# Altium integrated library NSC LDO.IntLib: 1202 symbols (part 24 of 27)
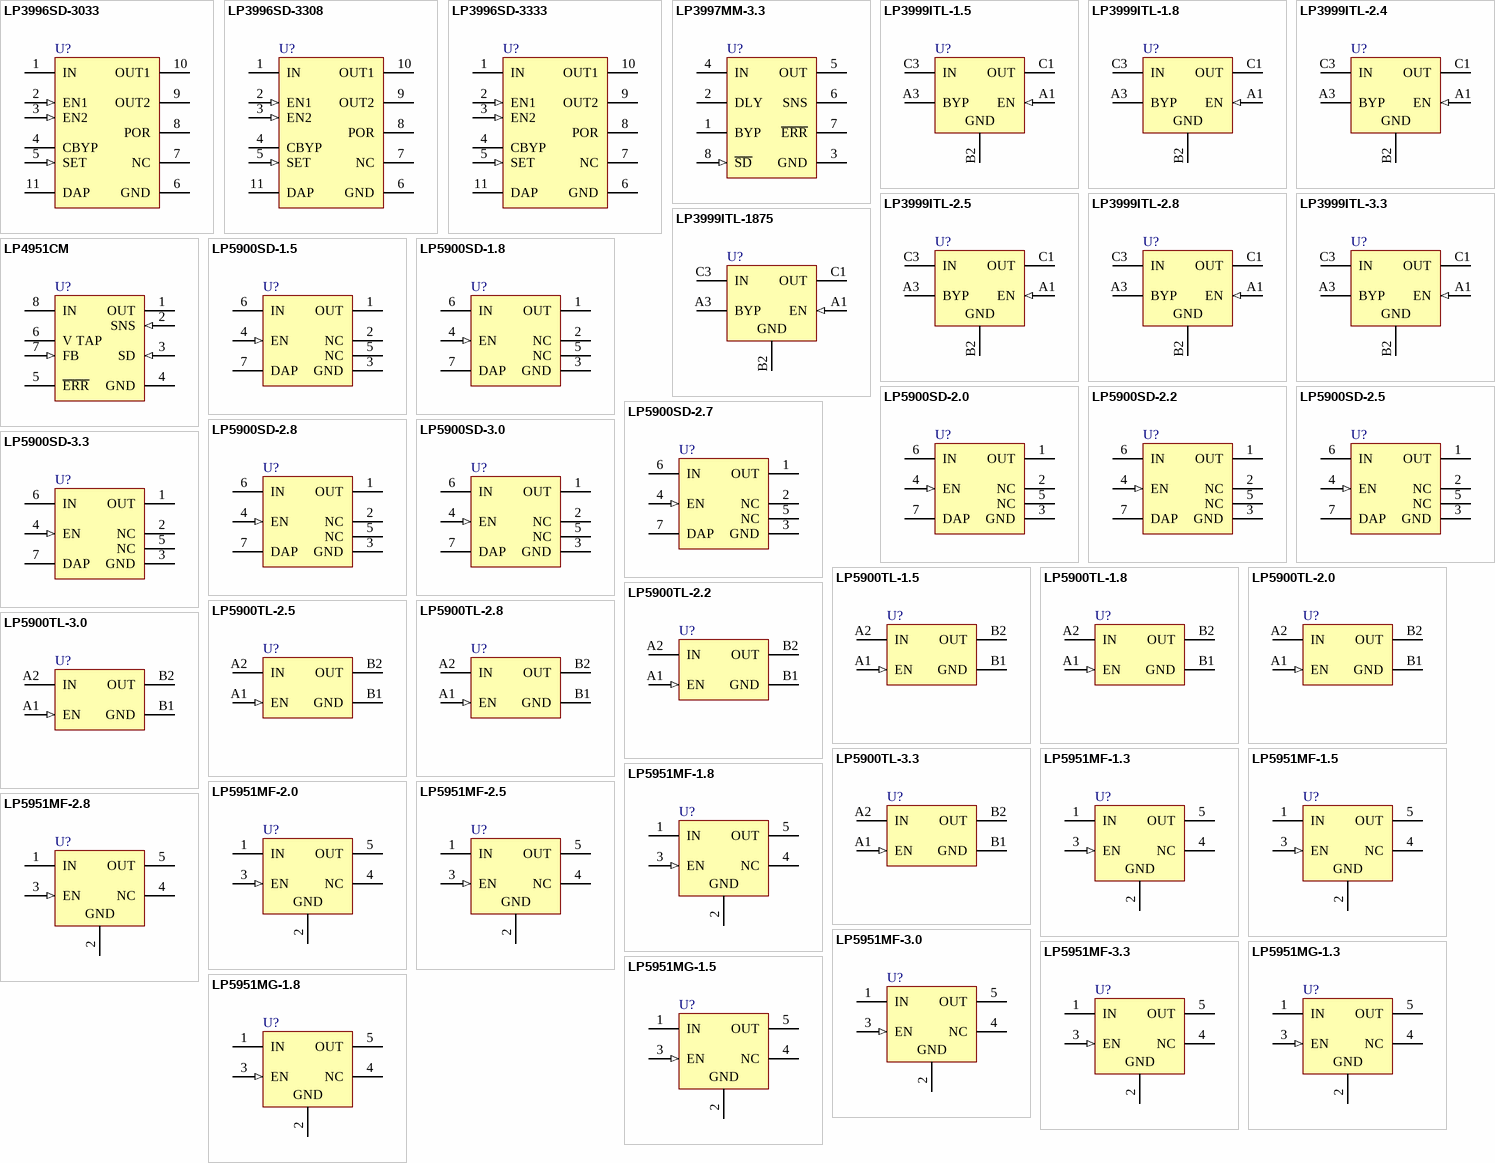
[diagram p53: symbols LP3996SD-3033 to LP5951MG-1.8]

## LP5951MG-1.5
designator U?
Micropower, 150mA Low-Dropout CMOS Voltage Regulator; PartNumber: LP5951MG-1.5; Manufacturer: National Semiconductor; CompType: LDO IC; PackageTopMarking: L2B*XTT; Published: 4-Dec-2008; DatasheetVersion: May-2007; PackageVersion: revD, Jun-2007; PackageReference: MAA05A; Publisher: Altium Limited; PackageDescription: Molded SC-70, 2 x 1.25 x .9mm, 5 Lead, 0.65mm Pitch; RoHS: Y; PinCount: 5; DigiKeyPartNumber: LP5951MG-1.5CT-ND; Code_JEITA: SC-88A; Code_JEDEC: MO-203-AA; Code_IPC: SOT353-5; ComponentLink1Description: LP5951 Datasheet; ComponentLink1URL: http://www.national.com/ds/LP/LP5951.pdf; ComponentLink2Description: LP5951 Web Page; ComponentLink2URL: http://www.national.com/pf/LP/LP5951.html; ComponentLink3Description: MAA05A Package Page; ComponentLink3URL: http://www.national.com/packaging/folders/maa05a.html
footprint MAA05A_N (SOT353, 5-Leads, Body 2x1.3mm, Pitch 0.65mm, Lead Span 2.1mm, IPC Medium Density)
footprint MAA05A_L (SOT353, 5-Leads, Body 2x1.3mm, Pitch 0.65mm, Lead Span 2.1mm, IPC High Density)
footprint MAA05A_M (SOT353, 5-Leads, Body 2x1.3mm, Pitch 0.65mm, Lead Span 2.1mm, IPC Low Density)
pins: 1 IN (power), 2 GND (power), 3 EN (in), 4 NC, 5 OUT (power)

## LP5951MG-1.8
designator U?
Micropower, 150mA Low-Dropout CMOS Voltage Regulator; PartNumber: LP5951MG-1.8; Manufacturer: National Semiconductor; CompType: LDO IC; PackageTopMarking: L3B*XTT; Published: 4-Dec-2008; DatasheetVersion: May-2007; PackageVersion: revD, Jun-2007; PackageReference: MAA05A; Publisher: Altium Limited; PackageDescription: Molded SC-70, 2 x 1.25 x .9mm, 5 Lead, 0.65mm Pitch; RoHS: O; PinCount: 5; DigiKeyPartNumber: LP5951MG-1.8CT-ND; Code_JEITA: SC-88A; Code_JEDEC: MO-203-AA; Code_IPC: SOT353-5; ComponentLink1Description: LP5951 Datasheet; ComponentLink1URL: http://www.national.com/ds/LP/LP5951.pdf; ComponentLink2Description: LP5951 Web Page; ComponentLink2URL: http://www.national.com/pf/LP/LP5951.html; ComponentLink3Description: MAA05A Package Page; ComponentLink3URL: http://www.national.com/packaging/folders/maa05a.html
footprint MAA05A_N (SOT353, 5-Leads, Body 2x1.3mm, Pitch 0.65mm, Lead Span 2.1mm, IPC Medium Density)
footprint MAA05A_L (SOT353, 5-Leads, Body 2x1.3mm, Pitch 0.65mm, Lead Span 2.1mm, IPC High Density)
footprint MAA05A_M (SOT353, 5-Leads, Body 2x1.3mm, Pitch 0.65mm, Lead Span 2.1mm, IPC Low Density)
pins: 1 IN (power), 2 GND (power), 3 EN (in), 4 NC, 5 OUT (power)

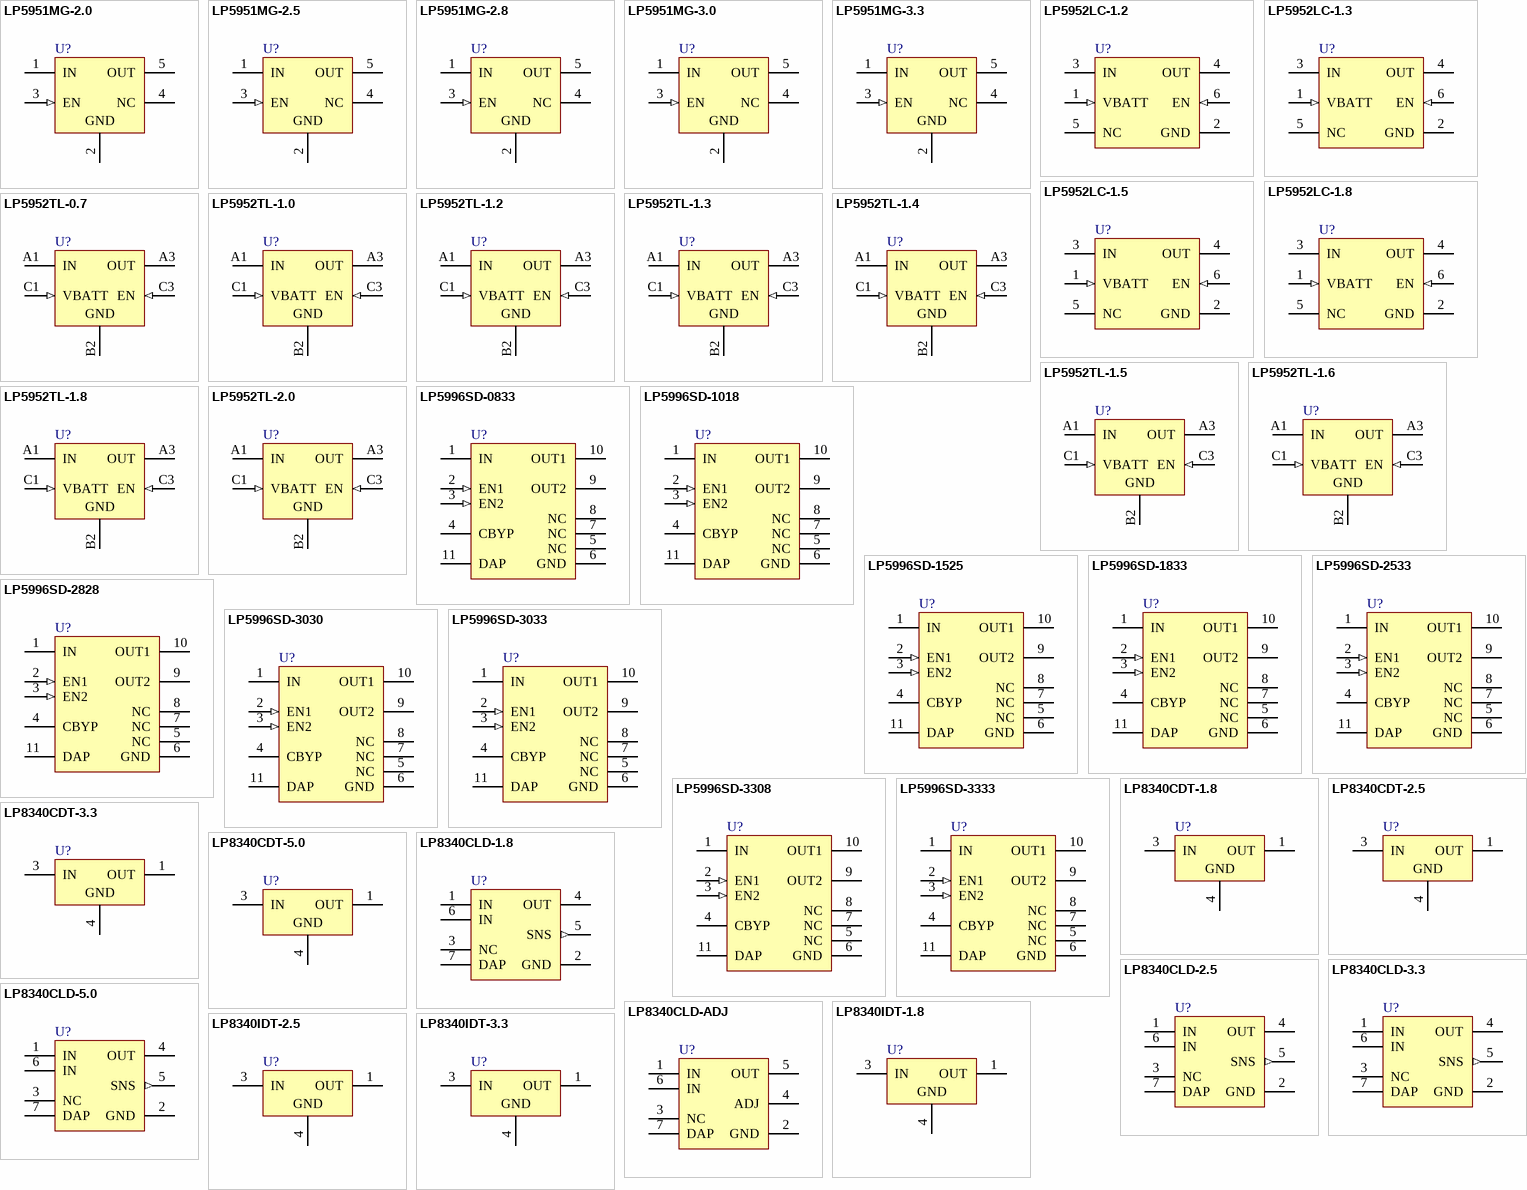
[diagram p26: symbols LP5951MG-2.0 to LP8340IDT-3.3]

## LP5951MG-2.0
designator U?
Micropower, 150mA Low-Dropout CMOS Voltage Regulator; PartNumber: LP5951MG-2.0; Manufacturer: National Semiconductor; CompType: LDO IC; PackageTopMarking: L4B*XTT; Published: 4-Dec-2008; DatasheetVersion: May-2007; PackageVersion: revD, Jun-2007; PackageReference: MAA05A; Publisher: Altium Limited; PackageDescription: Molded SC-70, 2 x 1.25 x .9mm, 5 Lead, 0.65mm Pitch; RoHS: Y; PinCount: 5; DigiKeyPartNumber: LP5951MG-2.0CT-ND; Code_JEITA: SC-88A; Code_JEDEC: MO-203-AA; Code_IPC: SOT353-5; ComponentLink1Description: LP5951 Datasheet; ComponentLink1URL: http://www.national.com/ds/LP/LP5951.pdf; ComponentLink2Description: LP5951 Web Page; ComponentLink2URL: http://www.national.com/pf/LP/LP5951.html; ComponentLink3Description: MAA05A Package Page; ComponentLink3URL: http://www.national.com/packaging/folders/maa05a.html
footprint MAA05A_N (SOT353, 5-Leads, Body 2x1.3mm, Pitch 0.65mm, Lead Span 2.1mm, IPC Medium Density)
footprint MAA05A_L (SOT353, 5-Leads, Body 2x1.3mm, Pitch 0.65mm, Lead Span 2.1mm, IPC High Density)
footprint MAA05A_M (SOT353, 5-Leads, Body 2x1.3mm, Pitch 0.65mm, Lead Span 2.1mm, IPC Low Density)
pins: 1 IN (power), 2 GND (power), 3 EN (in), 4 NC, 5 OUT (power)

## LP5951MG-2.5
designator U?
Micropower, 150mA Low-Dropout CMOS Voltage Regulator; PartNumber: LP5951MG-2.5; Manufacturer: National Semiconductor; CompType: LDO IC; PackageTopMarking: L5B*XTT; Published: 4-Dec-2008; DatasheetVersion: May-2007; PackageVersion: revD, Jun-2007; PackageReference: MAA05A; Publisher: Altium Limited; PackageDescription: Molded SC-70, 2 x 1.25 x .9mm, 5 Lead, 0.65mm Pitch; RoHS: O; PinCount: 5; DigiKeyPartNumber: LP5951MG-2.5CT-ND; Code_JEITA: SC-88A; Code_JEDEC: MO-203-AA; Code_IPC: SOT353-5; ComponentLink1Description: LP5951 Datasheet; ComponentLink1URL: http://www.national.com/ds/LP/LP5951.pdf; ComponentLink2Description: LP5951 Web Page; ComponentLink2URL: http://www.national.com/pf/LP/LP5951.html; ComponentLink3Description: MAA05A Package Page; ComponentLink3URL: http://www.national.com/packaging/folders/maa05a.html
footprint MAA05A_N (SOT353, 5-Leads, Body 2x1.3mm, Pitch 0.65mm, Lead Span 2.1mm, IPC Medium Density)
footprint MAA05A_L (SOT353, 5-Leads, Body 2x1.3mm, Pitch 0.65mm, Lead Span 2.1mm, IPC High Density)
footprint MAA05A_M (SOT353, 5-Leads, Body 2x1.3mm, Pitch 0.65mm, Lead Span 2.1mm, IPC Low Density)
pins: 1 IN (power), 2 GND (power), 3 EN (in), 4 NC, 5 OUT (power)

## LP5951MG-2.8
designator U?
Micropower, 150mA Low-Dropout CMOS Voltage Regulator; PartNumber: LP5951MG-2.8; Manufacturer: National Semiconductor; CompType: LDO IC; PackageTopMarking: L6B*XTT; Published: 4-Dec-2008; DatasheetVersion: May-2007; PackageVersion: revD, Jun-2007; PackageReference: MAA05A; Publisher: Altium Limited; PackageDescription: Molded SC-70, 2 x 1.25 x .9mm, 5 Lead, 0.65mm Pitch; RoHS: Y; PinCount: 5; DigiKeyPartNumber: LP5951MG-2.8CT-ND; Code_JEITA: SC-88A; Code_JEDEC: MO-203-AA; Code_IPC: SOT353-5; ComponentLink1Description: LP5951 Datasheet; ComponentLink1URL: http://www.national.com/ds/LP/LP5951.pdf; ComponentLink2Description: LP5951 Web Page; ComponentLink2URL: http://www.national.com/pf/LP/LP5951.html; ComponentLink3Description: MAA05A Package Page; ComponentLink3URL: http://www.national.com/packaging/folders/maa05a.html
footprint MAA05A_N (SOT353, 5-Leads, Body 2x1.3mm, Pitch 0.65mm, Lead Span 2.1mm, IPC Medium Density)
footprint MAA05A_L (SOT353, 5-Leads, Body 2x1.3mm, Pitch 0.65mm, Lead Span 2.1mm, IPC High Density)
footprint MAA05A_M (SOT353, 5-Leads, Body 2x1.3mm, Pitch 0.65mm, Lead Span 2.1mm, IPC Low Density)
pins: 1 IN (power), 2 GND (power), 3 EN (in), 4 NC, 5 OUT (power)

## LP5951MG-3.0
designator U?
Micropower, 150mA Low-Dropout CMOS Voltage Regulator; PartNumber: LP5951MG-3.0; Manufacturer: National Semiconductor; CompType: LDO IC; PackageTopMarking: L7B*XTT; Published: 4-Dec-2008; DatasheetVersion: May-2007; PackageVersion: revD, Jun-2007; PackageReference: MAA05A; Publisher: Altium Limited; PackageDescription: Molded SC-70, 2 x 1.25 x .9mm, 5 Lead, 0.65mm Pitch; RoHS: Y; PinCount: 5; DigiKeyPartNumber: LP5951MG-3.0CT-ND; Code_JEITA: SC-88A; Code_JEDEC: MO-203-AA; Code_IPC: SOT353-5; ComponentLink1Description: LP5951 Datasheet; ComponentLink1URL: http://www.national.com/ds/LP/LP5951.pdf; ComponentLink2Description: LP5951 Web Page; ComponentLink2URL: http://www.national.com/pf/LP/LP5951.html; ComponentLink3Description: MAA05A Package Page; ComponentLink3URL: http://www.national.com/packaging/folders/maa05a.html
footprint MAA05A_N (SOT353, 5-Leads, Body 2x1.3mm, Pitch 0.65mm, Lead Span 2.1mm, IPC Medium Density)
footprint MAA05A_L (SOT353, 5-Leads, Body 2x1.3mm, Pitch 0.65mm, Lead Span 2.1mm, IPC High Density)
footprint MAA05A_M (SOT353, 5-Leads, Body 2x1.3mm, Pitch 0.65mm, Lead Span 2.1mm, IPC Low Density)
pins: 1 IN (power), 2 GND (power), 3 EN (in), 4 NC, 5 OUT (power)

## LP5951MG-3.3
designator U?
Micropower, 150mA Low-Dropout CMOS Voltage Regulator; PartNumber: LP5951MG-3.3; Manufacturer: National Semiconductor; CompType: LDO IC; PackageTopMarking: LAB*XTT; Published: 4-Dec-2008; DatasheetVersion: May-2007; PackageVersion: revD, Jun-2007; PackageReference: MAA05A; Publisher: Altium Limited; PackageDescription: Molded SC-70, 2 x 1.25 x .9mm, 5 Lead, 0.65mm Pitch; RoHS: Y; PinCount: 5; DigiKeyPartNumber: LP5951MG-3.3CT-ND; Code_JEITA: SC-88A; Code_JEDEC: MO-203-AA; Code_IPC: SOT353-5; ComponentLink1Description: LP5951 Datasheet; ComponentLink1URL: http://www.national.com/ds/LP/LP5951.pdf; ComponentLink2Description: LP5951 Web Page; ComponentLink2URL: http://www.national.com/pf/LP/LP5951.html; ComponentLink3Description: MAA05A Package Page; ComponentLink3URL: http://www.national.com/packaging/folders/maa05a.html
footprint MAA05A_N (SOT353, 5-Leads, Body 2x1.3mm, Pitch 0.65mm, Lead Span 2.1mm, IPC Medium Density)
footprint MAA05A_L (SOT353, 5-Leads, Body 2x1.3mm, Pitch 0.65mm, Lead Span 2.1mm, IPC High Density)
footprint MAA05A_M (SOT353, 5-Leads, Body 2x1.3mm, Pitch 0.65mm, Lead Span 2.1mm, IPC Low Density)
pins: 1 IN (power), 2 GND (power), 3 EN (in), 4 NC, 5 OUT (power)

## LP5952LC-1.2
designator U?
350mA Dual Rail Linear Regulator; PartNumber: LP5952LC-1.2; Manufacturer: National Semiconductor; CompType: LDO IC; PackageTopMarking: XTT*L28; Published: 4-Dec-2008; DatasheetVersion: Jun-2008; PackageVersion: revA, Oct-2006; PackageReference: LCA06B; Publisher: Altium Limited; PackageDescription: LLP, 2 x 2 x 0.6mm, 6 Lead, 0.5mm Pitch, No Pullback; RoHS: Y; PinCount: 6; DigiKeyPartNumber: LP5952LC-1.2-ND; ComponentLink1Description: LP5952 Datasheet; ComponentLink1URL: http://www.national.com/ds/LP/LP5952.pdf; ComponentLink2Description: LP5952 Web Page; ComponentLink2URL: http://www.national.com/pf/LP/LP5952.html; ComponentLink3Description: LCA06B Package Page; ComponentLink3URL: http://www.national.com/packaging/folders/lca06b.html
footprint LCA06B (SON, 6-Leads, Body 2x2mm, Pitch 0.5mm, NSC Recommended)
pins: 1 VBATT (in), 2 GND (power), 3 IN (power), 4 OUT (power), 5 NC, 6 EN (in)

## LP5952LC-1.3
designator U?
350mA Dual Rail Linear Regulator; PartNumber: LP5952LC-1.3; Manufacturer: National Semiconductor; CompType: LDO IC; PackageTopMarking: XTT*L43; Published: 4-Dec-2008; DatasheetVersion: Jun-2008; PackageVersion: revA, Oct-2006; PackageReference: LCA06B; Publisher: Altium Limited; PackageDescription: LLP, 2 x 2 x 0.6mm, 6 Lead, 0.5mm Pitch, No Pullback; RoHS: Y; PinCount: 6; DigiKeyPartNumber: LP5952LC-1.3-ND; ComponentLink1Description: LP5952 Datasheet; ComponentLink1URL: http://www.national.com/ds/LP/LP5952.pdf; ComponentLink2Description: LP5952 Web Page; ComponentLink2URL: http://www.national.com/pf/LP/LP5952.html; ComponentLink3Description: LCA06B Package Page; ComponentLink3URL: http://www.national.com/packaging/folders/lca06b.html
footprint LCA06B (SON, 6-Leads, Body 2x2mm, Pitch 0.5mm, NSC Recommended)
pins: 1 VBATT (in), 2 GND (power), 3 IN (power), 4 OUT (power), 5 NC, 6 EN (in)

## LP5952LC-1.5
designator U?
350mA Dual Rail Linear Regulator; PartNumber: LP5952LC-1.5; Manufacturer: National Semiconductor; CompType: LDO IC; PackageTopMarking: XTT*L25; Published: 4-Dec-2008; DatasheetVersion: Jun-2008; PackageVersion: revA, Oct-2006; PackageReference: LCA06B; Publisher: Altium Limited; PackageDescription: LLP, 2 x 2 x 0.6mm, 6 Lead, 0.5mm Pitch, No Pullback; RoHS: Y; PinCount: 6; DigiKeyPartNumber: LP5952LC-1.5-ND; ComponentLink1Description: LP5952 Datasheet; ComponentLink1URL: http://www.national.com/ds/LP/LP5952.pdf; ComponentLink2Description: LP5952 Web Page; ComponentLink2URL: http://www.national.com/pf/LP/LP5952.html; ComponentLink3Description: LCA06B Package Page; ComponentLink3URL: http://www.national.com/packaging/folders/lca06b.html
footprint LCA06B (SON, 6-Leads, Body 2x2mm, Pitch 0.5mm, NSC Recommended)
pins: 1 VBATT (in), 2 GND (power), 3 IN (power), 4 OUT (power), 5 NC, 6 EN (in)

## LP5952LC-1.8
designator U?
350mA Dual Rail Linear Regulator; PartNumber: LP5952LC-1.8; Manufacturer: National Semiconductor; CompType: LDO IC; PackageTopMarking: XTT*L29; Published: 4-Dec-2008; DatasheetVersion: Jun-2008; PackageVersion: revA, Oct-2006; PackageReference: LCA06B; Publisher: Altium Limited; PackageDescription: LLP, 2 x 2 x 0.6mm, 6 Lead, 0.5mm Pitch, No Pullback; RoHS: Y; PinCount: 6; DigiKeyPartNumber: LP5952LC-1.8-ND; ComponentLink1Description: LP5952 Datasheet; ComponentLink1URL: http://www.national.com/ds/LP/LP5952.pdf; ComponentLink2Description: LP5952 Web Page; ComponentLink2URL: http://www.national.com/pf/LP/LP5952.html; ComponentLink3Description: LCA06B Package Page; ComponentLink3URL: http://www.national.com/packaging/folders/lca06b.html
footprint LCA06B (SON, 6-Leads, Body 2x2mm, Pitch 0.5mm, NSC Recommended)
pins: 1 VBATT (in), 2 GND (power), 3 IN (power), 4 OUT (power), 5 NC, 6 EN (in)

## LP5952TL-0.7
designator U?
350mA Dual Rail Linear Regulator; PartNumber: LP5952TL-0.7; Manufacturer: National Semiconductor; CompType: LDO IC; PackageTopMarking: XV*I 4; Published: 4-Dec-2008; DatasheetVersion: Jun-2008; PackageVersion: revC, Feb-2005; PackageReference: TLA05Z1A; Publisher: Altium Limited; PackageDescription: Thin Micro SMD, 5 Bump (Large), 0.5mm Pitch; RoHS: Y; PinCount: 5; DigiKeyPartNumber: LP5952TL-0.7CT-ND; ComponentLink1Description: LP5952 Datasheet; ComponentLink1URL: http://www.national.com/ds/LP/LP5952.pdf; ComponentLink2Description: LP5952 Web Page; ComponentLink2URL: http://www.national.com/pf/LP/LP5952.html; ComponentLink3Description: TLA05Z1A Package Page; ComponentLink3URL: http://www.national.com/packaging/folders/tla05z1a.html
footprint TLA05Z1A (Micro SMD, 5-Leads, Body 1.34x0.96mm, Pitch 0.5mm, NSC Recommended)
pins: A1 IN (power), A3 OUT (power), B2 GND (power), C1 VBATT (in), C3 EN (in)

## LP5952TL-1.0
designator U?
350mA Dual Rail Linear Regulator; PartNumber: LP5952TL-1.0; Manufacturer: National Semiconductor; CompType: LDO IC; PackageTopMarking: XV*I L; Published: 4-Dec-2008; DatasheetVersion: Jun-2008; PackageVersion: revC, Feb-2005; PackageReference: TLA05Z1A; Publisher: Altium Limited; PackageDescription: Thin Micro SMD, 5 Bump (Large), 0.5mm Pitch; RoHS: Y; PinCount: 5; ComponentLink1Description: LP5952 Datasheet; ComponentLink1URL: http://www.national.com/ds/LP/LP5952.pdf; ComponentLink2Description: LP5952 Web Page; ComponentLink2URL: http://www.national.com/pf/LP/LP5952.html; ComponentLink3Description: TLA05Z1A Package Page; ComponentLink3URL: http://www.national.com/packaging/folders/tla05z1a.html
footprint TLA05Z1A (Micro SMD, 5-Leads, Body 1.34x0.96mm, Pitch 0.5mm, NSC Recommended)
pins: A1 IN (power), A3 OUT (power), B2 GND (power), C1 VBATT (in), C3 EN (in)

## LP5952TL-1.2
designator U?
350mA Dual Rail Linear Regulator; PartNumber: LP5952TL-1.2; Manufacturer: National Semiconductor; CompType: LDO IC; PackageTopMarking: XV*I 7; Published: 4-Dec-2008; DatasheetVersion: Jun-2008; PackageVersion: revC, Feb-2005; PackageReference: TLA05Z1A; Publisher: Altium Limited; PackageDescription: Thin Micro SMD, 5 Bump (Large), 0.5mm Pitch; RoHS: Y; PinCount: 5; DigiKeyPartNumber: LP5952TL-1.2CT-ND; ComponentLink1Description: LP5952 Datasheet; ComponentLink1URL: http://www.national.com/ds/LP/LP5952.pdf; ComponentLink2Description: LP5952 Web Page; ComponentLink2URL: http://www.national.com/pf/LP/LP5952.html; ComponentLink3Description: TLA05Z1A Package Page; ComponentLink3URL: http://www.national.com/packaging/folders/tla05z1a.html
footprint TLA05Z1A (Micro SMD, 5-Leads, Body 1.34x0.96mm, Pitch 0.5mm, NSC Recommended)
pins: A1 IN (power), A3 OUT (power), B2 GND (power), C1 VBATT (in), C3 EN (in)

## LP5952TL-1.3
designator U?
350mA Dual Rail Linear Regulator; PartNumber: LP5952TL-1.3; Manufacturer: National Semiconductor; CompType: LDO IC; PackageTopMarking: XV*I U; Published: 4-Dec-2008; DatasheetVersion: Jun-2008; PackageVersion: revC, Feb-2005; PackageReference: TLA05Z1A; Publisher: Altium Limited; PackageDescription: Thin Micro SMD, 5 Bump (Large), 0.5mm Pitch; RoHS: Y; PinCount: 5; DigiKeyPartNumber: LP5952TL-1.3CT-ND; ComponentLink1Description: LP5952 Datasheet; ComponentLink1URL: http://www.national.com/ds/LP/LP5952.pdf; ComponentLink2Description: LP5952 Web Page; ComponentLink2URL: http://www.national.com/pf/LP/LP5952.html; ComponentLink3Description: TLA05Z1A Package Page; ComponentLink3URL: http://www.national.com/packaging/folders/tla05z1a.html
footprint TLA05Z1A (Micro SMD, 5-Leads, Body 1.34x0.96mm, Pitch 0.5mm, NSC Recommended)
pins: A1 IN (power), A3 OUT (power), B2 GND (power), C1 VBATT (in), C3 EN (in)

## LP5952TL-1.4
designator U?
350mA Dual Rail Linear Regulator; PartNumber: LP5952TL-1.4; Manufacturer: National Semiconductor; CompType: LDO IC; PackageTopMarking: XV*I A; Published: 4-Dec-2008; DatasheetVersion: Jun-2008; PackageVersion: revC, Feb-2005; PackageReference: TLA05Z1A; Publisher: Altium Limited; PackageDescription: Thin Micro SMD, 5 Bump (Large), 0.5mm Pitch; RoHS: Y; PinCount: 5; DigiKeyPartNumber: LP5952TL-1.4CT-ND; ComponentLink1Description: LP5952 Datasheet; ComponentLink1URL: http://www.national.com/ds/LP/LP5952.pdf; ComponentLink2Description: LP5952 Web Page; ComponentLink2URL: http://www.national.com/pf/LP/LP5952.html; ComponentLink3Description: TLA05Z1A Package Page; ComponentLink3URL: http://www.national.com/packaging/folders/tla05z1a.html
footprint TLA05Z1A (Micro SMD, 5-Leads, Body 1.34x0.96mm, Pitch 0.5mm, NSC Recommended)
pins: A1 IN (power), A3 OUT (power), B2 GND (power), C1 VBATT (in), C3 EN (in)

## LP5952TL-1.5
designator U?
350mA Dual Rail Linear Regulator; PartNumber: LP5952TL-1.5; Manufacturer: National Semiconductor; CompType: LDO IC; PackageTopMarking: XV*I T; Published: 4-Dec-2008; DatasheetVersion: Jun-2008; PackageVersion: revC, Feb-2005; PackageReference: TLA05Z1A; Publisher: Altium Limited; PackageDescription: Thin Micro SMD, 5 Bump (Large), 0.5mm Pitch; RoHS: Y; PinCount: 5; DigiKeyPartNumber: LP5952TL-1.5CT-ND; ComponentLink1Description: LP5952 Datasheet; ComponentLink1URL: http://www.national.com/ds/LP/LP5952.pdf; ComponentLink2Description: LP5952 Web Page; ComponentLink2URL: http://www.national.com/pf/LP/LP5952.html; ComponentLink3Description: TLA05Z1A Package Page; ComponentLink3URL: http://www.national.com/packaging/folders/tla05z1a.html
footprint TLA05Z1A (Micro SMD, 5-Leads, Body 1.34x0.96mm, Pitch 0.5mm, NSC Recommended)
pins: A1 IN (power), A3 OUT (power), B2 GND (power), C1 VBATT (in), C3 EN (in)

## LP5952TL-1.6
designator U?
350mA Dual Rail Linear Regulator; PartNumber: LP5952TL-1.6; Manufacturer: National Semiconductor; CompType: LDO IC; PackageTopMarking: XV*I B; Published: 4-Dec-2008; DatasheetVersion: Jun-2008; PackageVersion: revC, Feb-2005; PackageReference: TLA05Z1A; Publisher: Altium Limited; PackageDescription: Thin Micro SMD, 5 Bump (Large), 0.5mm Pitch; RoHS: Y; PinCount: 5; DigiKeyPartNumber: LP5952TL-1.6CT-ND; ComponentLink1Description: LP5952 Datasheet; ComponentLink1URL: http://www.national.com/ds/LP/LP5952.pdf; ComponentLink2Description: LP5952 Web Page; ComponentLink2URL: http://www.national.com/pf/LP/LP5952.html; ComponentLink3Description: TLA05Z1A Package Page; ComponentLink3URL: http://www.national.com/packaging/folders/tla05z1a.html
footprint TLA05Z1A (Micro SMD, 5-Leads, Body 1.34x0.96mm, Pitch 0.5mm, NSC Recommended)
pins: A1 IN (power), A3 OUT (power), B2 GND (power), C1 VBATT (in), C3 EN (in)

## LP5952TL-1.8
designator U?
350mA Dual Rail Linear Regulator; PartNumber: LP5952TL-1.8; Manufacturer: National Semiconductor; CompType: LDO IC; PackageTopMarking: XV*I 8; Published: 4-Dec-2008; DatasheetVersion: Jun-2008; PackageVersion: revC, Feb-2005; PackageReference: TLA05Z1A; Publisher: Altium Limited; PackageDescription: Thin Micro SMD, 5 Bump (Large), 0.5mm Pitch; RoHS: Y; PinCount: 5; DigiKeyPartNumber: LP5952TL-1.8CT-ND; ComponentLink1Description: LP5952 Datasheet; ComponentLink1URL: http://www.national.com/ds/LP/LP5952.pdf; ComponentLink2Description: LP5952 Web Page; ComponentLink2URL: http://www.national.com/pf/LP/LP5952.html; ComponentLink3Description: TLA05Z1A Package Page; ComponentLink3URL: http://www.national.com/packaging/folders/tla05z1a.html
footprint TLA05Z1A (Micro SMD, 5-Leads, Body 1.34x0.96mm, Pitch 0.5mm, NSC Recommended)
pins: A1 IN (power), A3 OUT (power), B2 GND (power), C1 VBATT (in), C3 EN (in)

## LP5952TL-2.0
designator U?
350mA Dual Rail Linear Regulator; PartNumber: LP5952TL-2.0; Manufacturer: National Semiconductor; CompType: LDO IC; PackageTopMarking: XV*I 5; Published: 4-Dec-2008; DatasheetVersion: Jun-2008; PackageVersion: revC, Feb-2005; PackageReference: TLA05Z1A; Publisher: Altium Limited; PackageDescription: Thin Micro SMD, 5 Bump (Large), 0.5mm Pitch; RoHS: Y; PinCount: 5; DigiKeyPartNumber: LP5952TL-2.0CT-ND; ComponentLink1Description: LP5952 Datasheet; ComponentLink1URL: http://www.national.com/ds/LP/LP5952.pdf; ComponentLink2Description: LP5952 Web Page; ComponentLink2URL: http://www.national.com/pf/LP/LP5952.html; ComponentLink3Description: TLA05Z1A Package Page; ComponentLink3URL: http://www.national.com/packaging/folders/tla05z1a.html
footprint TLA05Z1A (Micro SMD, 5-Leads, Body 1.34x0.96mm, Pitch 0.5mm, NSC Recommended)
pins: A1 IN (power), A3 OUT (power), B2 GND (power), C1 VBATT (in), C3 EN (in)

## LP5996SD-0833
designator U?
Dual Linear Regulator with 300mA and 150mA Outputs; PartNumber: LP5996SD-0833; Manufacturer: National Semiconductor; CompType: LDO IC; PackageTopMarking: ZXYTT*L176B; Published: 4-Dec-2008; DatasheetVersion: Jan-2008; PackageVersion: revA, Oct-2003; PackageReference: SDA10A; Publisher: Altium Limited; PackageDescription: LLP, Plastic, Dual, 3 x 3 x 0.8mm Body, 10 Lead, 0.5mm Pitch, No Pullback; RoHS: Y; PinCount: 10; DigiKeyPartNumber: LP5996SD-0833CT-ND; ComponentLink1Description: LP5996 Datasheet; ComponentLink1URL: http://www.national.com/ds/LP/LP5996.pdf; ComponentLink2Description: LP5996 Web Page; ComponentLink2URL: http://www.national.com/pf/LP/LP5996.html; ComponentLink3Description: SDA10A Package Page; ComponentLink3URL: http://www.national.com/packaging/folders/sda10a.html
footprint SDA10A (SON, 10-Leads, Body 3x3 mm, Pitch 0.5mm, NSC Recommended)
pins: 1 IN (power), 2 EN1 (in), 3 EN2 (in), 4 CBYP, 5 NC, 6 GND (power), 7 NC, 8 NC, 9 OUT2 (power), 10 OUT1 (power), 11 DAP (power)

## LP5996SD-1018
designator U?
Dual Linear Regulator with 300mA and 150mA Outputs; PartNumber: LP5996SD-1018; Manufacturer: National Semiconductor; CompType: LDO IC; PackageTopMarking: ZXYTT*L224B; Published: 4-Dec-2008; DatasheetVersion: Jan-2008; PackageVersion: revA, Oct-2003; PackageReference: SDA10A; Publisher: Altium Limited; PackageDescription: LLP, Plastic, Dual, 3 x 3 x 0.8mm Body, 10 Lead, 0.5mm Pitch, No Pullback; RoHS: Y; PinCount: 10; ComponentLink1Description: LP5996 Datasheet; ComponentLink1URL: http://www.national.com/ds/LP/LP5996.pdf; ComponentLink2Description: LP5996 Web Page; ComponentLink2URL: http://www.national.com/pf/LP/LP5996.html; ComponentLink3Description: SDA10A Package Page; ComponentLink3URL: http://www.national.com/packaging/folders/sda10a.html
footprint SDA10A (SON, 10-Leads, Body 3x3 mm, Pitch 0.5mm, NSC Recommended)
pins: 1 IN (power), 2 EN1 (in), 3 EN2 (in), 4 CBYP, 5 NC, 6 GND (power), 7 NC, 8 NC, 9 OUT2 (power), 10 OUT1 (power), 11 DAP (power)

## LP5996SD-1525
designator U?
Dual Linear Regulator with 300mA and 150mA Outputs; PartNumber: LP5996SD-1525; Manufacturer: National Semiconductor; CompType: LDO IC; PackageTopMarking: ZXYTT*L177B; Published: 4-Dec-2008; DatasheetVersion: Jan-2008; PackageVersion: revA, Oct-2003; PackageReference: SDA10A; Publisher: Altium Limited; PackageDescription: LLP, Plastic, Dual, 3 x 3 x 0.8mm Body, 10 Lead, 0.5mm Pitch, No Pullback; RoHS: Y; PinCount: 10; DigiKeyPartNumber: LP5996SD-1525CT-ND; ComponentLink1Description: LP5996 Datasheet; ComponentLink1URL: http://www.national.com/ds/LP/LP5996.pdf; ComponentLink2Description: LP5996 Web Page; ComponentLink2URL: http://www.national.com/pf/LP/LP5996.html; ComponentLink3Description: SDA10A Package Page; ComponentLink3URL: http://www.national.com/packaging/folders/sda10a.html
footprint SDA10A (SON, 10-Leads, Body 3x3 mm, Pitch 0.5mm, NSC Recommended)
pins: 1 IN (power), 2 EN1 (in), 3 EN2 (in), 4 CBYP, 5 NC, 6 GND (power), 7 NC, 8 NC, 9 OUT2 (power), 10 OUT1 (power), 11 DAP (power)

## LP5996SD-1833
designator U?
Dual Linear Regulator with 300mA and 150mA Outputs; PartNumber: LP5996SD-1833; Manufacturer: National Semiconductor; CompType: LDO IC; PackageTopMarking: ZXYTT*L225B; Published: 4-Dec-2008; DatasheetVersion: Jan-2008; PackageVersion: revA, Oct-2003; PackageReference: SDA10A; Publisher: Altium Limited; PackageDescription: LLP, Plastic, Dual, 3 x 3 x 0.8mm Body, 10 Lead, 0.5mm Pitch, No Pullback; RoHS: Y; PinCount: 10; ComponentLink1Description: LP5996 Datasheet; ComponentLink1URL: http://www.national.com/ds/LP/LP5996.pdf; ComponentLink2Description: LP5996 Web Page; ComponentLink2URL: http://www.national.com/pf/LP/LP5996.html; ComponentLink3Description: SDA10A Package Page; ComponentLink3URL: http://www.national.com/packaging/folders/sda10a.html
footprint SDA10A (SON, 10-Leads, Body 3x3 mm, Pitch 0.5mm, NSC Recommended)
pins: 1 IN (power), 2 EN1 (in), 3 EN2 (in), 4 CBYP, 5 NC, 6 GND (power), 7 NC, 8 NC, 9 OUT2 (power), 10 OUT1 (power), 11 DAP (power)

## LP5996SD-2533
designator U?
Dual Linear Regulator with 300mA and 150mA Outputs; PartNumber: LP5996SD-2533; Manufacturer: National Semiconductor; CompType: LDO IC; PackageTopMarking: ZXYTT*L226B; Published: 4-Dec-2008; DatasheetVersion: Jan-2008; PackageVersion: revA, Oct-2003; PackageReference: SDA10A; Publisher: Altium Limited; PackageDescription: LLP, Plastic, Dual, 3 x 3 x 0.8mm Body, 10 Lead, 0.5mm Pitch, No Pullback; RoHS: Y; PinCount: 10; ComponentLink1Description: LP5996 Datasheet; ComponentLink1URL: http://www.national.com/ds/LP/LP5996.pdf; ComponentLink2Description: LP5996 Web Page; ComponentLink2URL: http://www.national.com/pf/LP/LP5996.html; ComponentLink3Description: SDA10A Package Page; ComponentLink3URL: http://www.national.com/packaging/folders/sda10a.html
footprint SDA10A (SON, 10-Leads, Body 3x3 mm, Pitch 0.5mm, NSC Recommended)
pins: 1 IN (power), 2 EN1 (in), 3 EN2 (in), 4 CBYP, 5 NC, 6 GND (power), 7 NC, 8 NC, 9 OUT2 (power), 10 OUT1 (power), 11 DAP (power)

## LP5996SD-2828
designator U?
Dual Linear Regulator with 300mA and 150mA Outputs; PartNumber: LP5996SD-2828; Manufacturer: National Semiconductor; CompType: LDO IC; PackageTopMarking: ZXYTT*L180B; Published: 4-Dec-2008; DatasheetVersion: Jan-2008; PackageVersion: revA, Oct-2003; PackageReference: SDA10A; Publisher: Altium Limited; PackageDescription: LLP, Plastic, Dual, 3 x 3 x 0.8mm Body, 10 Lead, 0.5mm Pitch, No Pullback; RoHS: Y; PinCount: 10; DigiKeyPartNumber: LP5996SD-2828CT-ND; ComponentLink1Description: LP5996 Datasheet; ComponentLink1URL: http://www.national.com/ds/LP/LP5996.pdf; ComponentLink2Description: LP5996 Web Page; ComponentLink2URL: http://www.national.com/pf/LP/LP5996.html; ComponentLink3Description: SDA10A Package Page; ComponentLink3URL: http://www.national.com/packaging/folders/sda10a.html
footprint SDA10A (SON, 10-Leads, Body 3x3 mm, Pitch 0.5mm, NSC Recommended)
pins: 1 IN (power), 2 EN1 (in), 3 EN2 (in), 4 CBYP, 5 NC, 6 GND (power), 7 NC, 8 NC, 9 OUT2 (power), 10 OUT1 (power), 11 DAP (power)

## LP5996SD-3030
designator U?
Dual Linear Regulator with 300mA and 150mA Outputs; PartNumber: LP5996SD-3030; Manufacturer: National Semiconductor; CompType: LDO IC; PackageTopMarking: ZXYTT*L181B; Published: 4-Dec-2008; DatasheetVersion: Jan-2008; PackageVersion: revA, Oct-2003; PackageReference: SDA10A; Publisher: Altium Limited; PackageDescription: LLP, Plastic, Dual, 3 x 3 x 0.8mm Body, 10 Lead, 0.5mm Pitch, No Pullback; RoHS: Y; PinCount: 10; DigiKeyPartNumber: LP5996SD-3030CT-ND; ComponentLink1Description: LP5996 Datasheet; ComponentLink1URL: http://www.national.com/ds/LP/LP5996.pdf; ComponentLink2Description: LP5996 Web Page; ComponentLink2URL: http://www.national.com/pf/LP/LP5996.html; ComponentLink3Description: SDA10A Package Page; ComponentLink3URL: http://www.national.com/packaging/folders/sda10a.html
footprint SDA10A (SON, 10-Leads, Body 3x3 mm, Pitch 0.5mm, NSC Recommended)
pins: 1 IN (power), 2 EN1 (in), 3 EN2 (in), 4 CBYP, 5 NC, 6 GND (power), 7 NC, 8 NC, 9 OUT2 (power), 10 OUT1 (power), 11 DAP (power)

## LP5996SD-3033
designator U?
Dual Linear Regulator with 300mA and 150mA Outputs; PartNumber: LP5996SD-3033; Manufacturer: National Semiconductor; CompType: LDO IC; PackageTopMarking: ZXYTT*L179B; Published: 4-Dec-2008; DatasheetVersion: Jan-2008; PackageVersion: revA, Oct-2003; PackageReference: SDA10A; Publisher: Altium Limited; PackageDescription: LLP, Plastic, Dual, 3 x 3 x 0.8mm Body, 10 Lead, 0.5mm Pitch, No Pullback; RoHS: Y; PinCount: 10; DigiKeyPartNumber: LP5996SD-3033CT-ND; ComponentLink1Description: LP5996 Datasheet; ComponentLink1URL: http://www.national.com/ds/LP/LP5996.pdf; ComponentLink2Description: LP5996 Web Page; ComponentLink2URL: http://www.national.com/pf/LP/LP5996.html; ComponentLink3Description: SDA10A Package Page; ComponentLink3URL: http://www.national.com/packaging/folders/sda10a.html
footprint SDA10A (SON, 10-Leads, Body 3x3 mm, Pitch 0.5mm, NSC Recommended)
pins: 1 IN (power), 2 EN1 (in), 3 EN2 (in), 4 CBYP, 5 NC, 6 GND (power), 7 NC, 8 NC, 9 OUT2 (power), 10 OUT1 (power), 11 DAP (power)

## LP5996SD-3308
designator U?
Dual Linear Regulator with 300mA and 150mA Outputs; PartNumber: LP5996SD-3308; Manufacturer: National Semiconductor; CompType: LDO IC; PackageTopMarking: ZXYTT*L205B; Published: 4-Dec-2008; DatasheetVersion: Jan-2008; PackageVersion: revA, Oct-2003; PackageReference: SDA10A; Publisher: Altium Limited; PackageDescription: LLP, Plastic, Dual, 3 x 3 x 0.8mm Body, 10 Lead, 0.5mm Pitch, No Pullback; RoHS: Y; PinCount: 10; DigiKeyPartNumber: LP5996SD-3308CT-ND; ComponentLink1Description: LP5996 Datasheet; ComponentLink1URL: http://www.national.com/ds/LP/LP5996.pdf; ComponentLink2Description: LP5996 Web Page; ComponentLink2URL: http://www.national.com/pf/LP/LP5996.html; ComponentLink3Description: SDA10A Package Page; ComponentLink3URL: http://www.national.com/packaging/folders/sda10a.html
footprint SDA10A (SON, 10-Leads, Body 3x3 mm, Pitch 0.5mm, NSC Recommended)
pins: 1 IN (power), 2 EN1 (in), 3 EN2 (in), 4 CBYP, 5 NC, 6 GND (power), 7 NC, 8 NC, 9 OUT2 (power), 10 OUT1 (power), 11 DAP (power)

## LP5996SD-3333
designator U?
Dual Linear Regulator with 300mA and 150mA Outputs; PartNumber: LP5996SD-3333; Manufacturer: National Semiconductor; CompType: LDO IC; PackageTopMarking: ZXYTT*L182B; Published: 4-Dec-2008; DatasheetVersion: Jan-2008; PackageVersion: revA, Oct-2003; PackageReference: SDA10A; Publisher: Altium Limited; PackageDescription: LLP, Plastic, Dual, 3 x 3 x 0.8mm Body, 10 Lead, 0.5mm Pitch, No Pullback; RoHS: Y; PinCount: 10; DigiKeyPartNumber: LP5996SD-3333CT-ND; ComponentLink1Description: LP5996 Datasheet; ComponentLink1URL: http://www.national.com/ds/LP/LP5996.pdf; ComponentLink2Description: LP5996 Web Page; ComponentLink2URL: http://www.national.com/pf/LP/LP5996.html; ComponentLink3Description: SDA10A Package Page; ComponentLink3URL: http://www.national.com/packaging/folders/sda10a.html
footprint SDA10A (SON, 10-Leads, Body 3x3 mm, Pitch 0.5mm, NSC Recommended)
pins: 1 IN (power), 2 EN1 (in), 3 EN2 (in), 4 CBYP, 5 NC, 6 GND (power), 7 NC, 8 NC, 9 OUT2 (power), 10 OUT1 (power), 11 DAP (power)

## LP8340CDT-1.8
designator U?
Low Dropout, Low IQ, 1.0A CMOS Linear Regulator; PartNumber: LP8340CDT-1.8; Manufacturer: National Semiconductor; CompType: LDO IC; PackageTopMarking: NSUZXYTT*LP8340*CDT-1.8; Published: 4-Dec-2008; DatasheetVersion: May-2005; PackageVersion: revC, Apr-2003; PackageReference: TD03B; Publisher: Altium Limited; PackageDescription: TO252, Molded, Jedec, 6.8 x 6.10 x 2.30mm Body, 3 Lead, 2.28mm Pitch, Surface Mount; RoHS: Y; PinCount: 3; DigiKeyPartNumber: LP8340CDTX-1.8-ND; Code_JEDEC: TO-252-AA; ComponentLink1Description: LP8340 Datasheet; ComponentLink1URL: http://www.national.com/ds/LP/LP8340.pdf; ComponentLink2Description: LP8340 Web Page; ComponentLink2URL: http://www.national.com/pf/LP/LP8340.html; ComponentLink3Description: TD03B Package Page; ComponentLink3URL: http://www.national.com/packaging/folders/td03b.html
footprint TD03B_N (D-PAK, 4-Leads, Body 6.1x6.6mm, Pitch 2.29mm, Lead Span 9.7mm, IPC Medium Density)
footprint TD03B_L (D-PAK, 4-Leads, Body 6.1x6.6mm, Pitch 2.29mm, Lead Span 9.7mm, IPC High Density)
footprint TD03B_M (D-PAK, 4-Leads, Body 6.1x6.6mm, Pitch 2.29mm, Lead Span 9.7mm, IPC Low Density)
pins: 1 OUT (power), 3 IN (power), 4 GND (power)

## LP8340CDT-2.5
designator U?
Low Dropout, Low IQ, 1.0A CMOS Linear Regulator; PartNumber: LP8340CDT-2.5; Manufacturer: National Semiconductor; CompType: LDO IC; PackageTopMarking: NSUZXYTT*LP8340*CDT-2.5; Published: 4-Dec-2008; DatasheetVersion: May-2005; PackageVersion: revC, Apr-2003; PackageReference: TD03B; Publisher: Altium Limited; PackageDescription: TO252, Molded, Jedec, 6.8 x 6.10 x 2.30mm Body, 3 Lead, 2.28mm Pitch, Surface Mount; RoHS: Y; PinCount: 3; DigiKeyPartNumber: LP8340CDTX-2.5-ND; Code_JEDEC: TO-252-AA; ComponentLink1Description: LP8340 Datasheet; ComponentLink1URL: http://www.national.com/ds/LP/LP8340.pdf; ComponentLink2Description: LP8340 Web Page; ComponentLink2URL: http://www.national.com/pf/LP/LP8340.html; ComponentLink3Description: TD03B Package Page; ComponentLink3URL: http://www.national.com/packaging/folders/td03b.html
footprint TD03B_N (D-PAK, 4-Leads, Body 6.1x6.6mm, Pitch 2.29mm, Lead Span 9.7mm, IPC Medium Density)
footprint TD03B_L (D-PAK, 4-Leads, Body 6.1x6.6mm, Pitch 2.29mm, Lead Span 9.7mm, IPC High Density)
footprint TD03B_M (D-PAK, 4-Leads, Body 6.1x6.6mm, Pitch 2.29mm, Lead Span 9.7mm, IPC Low Density)
pins: 1 OUT (power), 3 IN (power), 4 GND (power)

## LP8340CDT-3.3
designator U?
Low Dropout, Low IQ, 1.0A CMOS Linear Regulator; PartNumber: LP8340CDT-3.3; Manufacturer: National Semiconductor; CompType: LDO IC; PackageTopMarking: NSUZXYTT*LP8340*CDT-3.3; Published: 4-Dec-2008; DatasheetVersion: May-2005; PackageVersion: revC, Apr-2003; PackageReference: TD03B; Publisher: Altium Limited; PackageDescription: TO252, Molded, Jedec, 6.8 x 6.10 x 2.30mm Body, 3 Lead, 2.28mm Pitch, Surface Mount; RoHS: Y; PinCount: 3; DigiKeyPartNumber: LP8340CDTX-3.3-ND; Code_JEDEC: TO-252-AA; ComponentLink1Description: LP8340 Datasheet; ComponentLink1URL: http://www.national.com/ds/LP/LP8340.pdf; ComponentLink2Description: LP8340 Web Page; ComponentLink2URL: http://www.national.com/pf/LP/LP8340.html; ComponentLink3Description: TD03B Package Page; ComponentLink3URL: http://www.national.com/packaging/folders/td03b.html
footprint TD03B_N (D-PAK, 4-Leads, Body 6.1x6.6mm, Pitch 2.29mm, Lead Span 9.7mm, IPC Medium Density)
footprint TD03B_L (D-PAK, 4-Leads, Body 6.1x6.6mm, Pitch 2.29mm, Lead Span 9.7mm, IPC High Density)
footprint TD03B_M (D-PAK, 4-Leads, Body 6.1x6.6mm, Pitch 2.29mm, Lead Span 9.7mm, IPC Low Density)
pins: 1 OUT (power), 3 IN (power), 4 GND (power)

## LP8340CDT-5.0
designator U?
Low Dropout, Low IQ, 1.0A CMOS Linear Regulator; PartNumber: LP8340CDT-5.0; Manufacturer: National Semiconductor; CompType: LDO IC; PackageTopMarking: NSUZXYTT*LP8340*CDT-5.0; Published: 4-Dec-2008; DatasheetVersion: May-2005; PackageVersion: revC, Apr-2003; PackageReference: TD03B; Publisher: Altium Limited; PackageDescription: TO252, Molded, Jedec, 6.8 x 6.10 x 2.30mm Body, 3 Lead, 2.28mm Pitch, Surface Mount; RoHS: O; PinCount: 3; DigiKeyPartNumber: LP8340CDTX-5.0-ND; Code_JEDEC: TO-252-AA; ComponentLink1Description: LP8340 Datasheet; ComponentLink1URL: http://www.national.com/ds/LP/LP8340.pdf; ComponentLink2Description: LP8340 Web Page; ComponentLink2URL: http://www.national.com/pf/LP/LP8340.html; ComponentLink3Description: TD03B Package Page; ComponentLink3URL: http://www.national.com/packaging/folders/td03b.html
footprint TD03B_N (D-PAK, 4-Leads, Body 6.1x6.6mm, Pitch 2.29mm, Lead Span 9.7mm, IPC Medium Density)
footprint TD03B_L (D-PAK, 4-Leads, Body 6.1x6.6mm, Pitch 2.29mm, Lead Span 9.7mm, IPC High Density)
footprint TD03B_M (D-PAK, 4-Leads, Body 6.1x6.6mm, Pitch 2.29mm, Lead Span 9.7mm, IPC Low Density)
pins: 1 OUT (power), 3 IN (power), 4 GND (power)

## LP8340CLD-1.8
designator U?
Low Dropout, Low IQ, 1.0A CMOS Linear Regulator; PartNumber: LP8340CLD-1.8; Manufacturer: National Semiconductor; CompType: LDO IC; PackageTopMarking: ZXYTT*L042B; Published: 4-Dec-2008; DatasheetVersion: May-2005; PackageVersion: revA, Jul-2001; PackageReference: LDE06A; Publisher: Altium Limited; PackageDescription: LLP, Plastic, Dual, 2.92 x 3.29 x 0.75mm Body, 6 Lead, 0.95mm Pitch, SOT23 Land; RoHS: Y; PinCount: 6; DigiKeyPartNumber: LP8340CLD-1.8CT-ND; ComponentLink1Description: LP8340 Datasheet; ComponentLink1URL: http://www.national.com/ds/LP/LP8340.pdf; ComponentLink2Description: LP8340 Web Page; ComponentLink2URL: http://www.national.com/pf/LP/LP8340.html; ComponentLink3Description: LDE06A Package Page; ComponentLink3URL: http://www.national.com/packaging/folders/lde06a.html
footprint LDE06A (PSON, 6-Leads, Body 2.92x3.29 mm, Pitch 0.95mm, NSC Recommended)
pins: 1 IN (power), 2 GND (power), 3 NC, 4 OUT (power), 5 SNS (out), 6 IN (power), 7 DAP (power)

## LP8340CLD-2.5
designator U?
Low Dropout, Low IQ, 1.0A CMOS Linear Regulator; PartNumber: LP8340CLD-2.5; Manufacturer: National Semiconductor; CompType: LDO IC; PackageTopMarking: ZXYTT*L043B; Published: 4-Dec-2008; DatasheetVersion: May-2005; PackageVersion: revA, Jul-2001; PackageReference: LDE06A; Publisher: Altium Limited; PackageDescription: LLP, Plastic, Dual, 2.92 x 3.29 x 0.75mm Body, 6 Lead, 0.95mm Pitch, SOT23 Land; RoHS: Y; PinCount: 6; DigiKeyPartNumber: LP8340CLD-2.5CT-ND; ComponentLink1Description: LP8340 Datasheet; ComponentLink1URL: http://www.national.com/ds/LP/LP8340.pdf; ComponentLink2Description: LP8340 Web Page; ComponentLink2URL: http://www.national.com/pf/LP/LP8340.html; ComponentLink3Description: LDE06A Package Page; ComponentLink3URL: http://www.national.com/packaging/folders/lde06a.html
footprint LDE06A (PSON, 6-Leads, Body 2.92x3.29 mm, Pitch 0.95mm, NSC Recommended)
pins: 1 IN (power), 2 GND (power), 3 NC, 4 OUT (power), 5 SNS (out), 6 IN (power), 7 DAP (power)

## LP8340CLD-3.3
designator U?
Low Dropout, Low IQ, 1.0A CMOS Linear Regulator; PartNumber: LP8340CLD-3.3; Manufacturer: National Semiconductor; CompType: LDO IC; PackageTopMarking: ZXYTT*L051B; Published: 4-Dec-2008; DatasheetVersion: May-2005; PackageVersion: revA, Jul-2001; PackageReference: LDE06A; Publisher: Altium Limited; PackageDescription: LLP, Plastic, Dual, 2.92 x 3.29 x 0.75mm Body, 6 Lead, 0.95mm Pitch, SOT23 Land; RoHS: Y; PinCount: 6; DigiKeyPartNumber: LP8340CLD-3.3CT-ND; ComponentLink1Description: LP8340 Datasheet; ComponentLink1URL: http://www.national.com/ds/LP/LP8340.pdf; ComponentLink2Description: LP8340 Web Page; ComponentLink2URL: http://www.national.com/pf/LP/LP8340.html; ComponentLink3Description: LDE06A Package Page; ComponentLink3URL: http://www.national.com/packaging/folders/lde06a.html
footprint LDE06A (PSON, 6-Leads, Body 2.92x3.29 mm, Pitch 0.95mm, NSC Recommended)
pins: 1 IN (power), 2 GND (power), 3 NC, 4 OUT (power), 5 SNS (out), 6 IN (power), 7 DAP (power)

## LP8340CLD-5.0
designator U?
Low Dropout, Low IQ, 1.0A CMOS Linear Regulator; PartNumber: LP8340CLD-5.0; Manufacturer: National Semiconductor; CompType: LDO IC; PackageTopMarking: ZXYTT*L044B; Published: 4-Dec-2008; DatasheetVersion: May-2005; PackageVersion: revA, Jul-2001; PackageReference: LDE06A; Publisher: Altium Limited; PackageDescription: LLP, Plastic, Dual, 2.92 x 3.29 x 0.75mm Body, 6 Lead, 0.95mm Pitch, SOT23 Land; RoHS: Y; PinCount: 6; DigiKeyPartNumber: LP8340CLD-5.0CT-ND; ComponentLink1Description: LP8340 Datasheet; ComponentLink1URL: http://www.national.com/ds/LP/LP8340.pdf; ComponentLink2Description: LP8340 Web Page; ComponentLink2URL: http://www.national.com/pf/LP/LP8340.html; ComponentLink3Description: LDE06A Package Page; ComponentLink3URL: http://www.national.com/packaging/folders/lde06a.html
footprint LDE06A (PSON, 6-Leads, Body 2.92x3.29 mm, Pitch 0.95mm, NSC Recommended)
pins: 1 IN (power), 2 GND (power), 3 NC, 4 OUT (power), 5 SNS (out), 6 IN (power), 7 DAP (power)

## LP8340CLD-ADJ
designator U?
Low Dropout, Low IQ, 1.0A CMOS Linear Regulator; PartNumber: LP8340CLD-ADJ; Manufacturer: National Semiconductor; CompType: LDO IC; PackageTopMarking: ZXYTT*L041B; Published: 4-Dec-2008; DatasheetVersion: May-2005; PackageVersion: revA, Jul-2001; PackageReference: LDE06A; Publisher: Altium Limited; PackageDescription: LLP, Plastic, Dual, 2.92 x 3.29 x 0.75mm Body, 6 Lead, 0.95mm Pitch, SOT23 Land; RoHS: Y; PinCount: 6; DigiKeyPartNumber: LP8340CLD-ADJCT-ND; ComponentLink1Description: LP8340 Datasheet; ComponentLink1URL: http://www.national.com/ds/LP/LP8340.pdf; ComponentLink2Description: LP8340 Web Page; ComponentLink2URL: http://www.national.com/pf/LP/LP8340.html; ComponentLink3Description: LDE06A Package Page; ComponentLink3URL: http://www.national.com/packaging/folders/lde06a.html
footprint LDE06A (PSON, 6-Leads, Body 2.92x3.29 mm, Pitch 0.95mm, NSC Recommended)
pins: 1 IN (power), 2 GND (power), 3 NC, 4 ADJ, 5 OUT (power), 6 IN (power), 7 DAP (power)

## LP8340IDT-1.8
designator U?
Low Dropout, Low IQ, 1.0A CMOS Linear Regulator; PartNumber: LP8340IDT-1.8; Manufacturer: National Semiconductor; CompType: LDO IC; PackageTopMarking: NSUZXYTT*LP8340*IDT-1.8; Published: 4-Dec-2008; DatasheetVersion: May-2005; PackageVersion: revC, Apr-2003; PackageReference: TD03B; Publisher: Altium Limited; PackageDescription: TO252, Molded, Jedec, 6.8 x 6.10 x 2.30mm Body, 3 Lead, 2.28mm Pitch, Surface Mount; RoHS: Y; PinCount: 3; DigiKeyPartNumber: LP8340IDT-1.8-ND; Code_JEDEC: TO-252-AA; ComponentLink1Description: LP8340 Datasheet; ComponentLink1URL: http://www.national.com/ds/LP/LP8340.pdf; ComponentLink2Description: LP8340 Web Page; ComponentLink2URL: http://www.national.com/pf/LP/LP8340.html; ComponentLink3Description: TD03B Package Page; ComponentLink3URL: http://www.national.com/packaging/folders/td03b.html
footprint TD03B_N (D-PAK, 4-Leads, Body 6.1x6.6mm, Pitch 2.29mm, Lead Span 9.7mm, IPC Medium Density)
footprint TD03B_L (D-PAK, 4-Leads, Body 6.1x6.6mm, Pitch 2.29mm, Lead Span 9.7mm, IPC High Density)
footprint TD03B_M (D-PAK, 4-Leads, Body 6.1x6.6mm, Pitch 2.29mm, Lead Span 9.7mm, IPC Low Density)
pins: 1 OUT (power), 3 IN (power), 4 GND (power)

## LP8340IDT-2.5
designator U?
Low Dropout, Low IQ, 1.0A CMOS Linear Regulator; PartNumber: LP8340IDT-2.5; Manufacturer: National Semiconductor; CompType: LDO IC; PackageTopMarking: NSUZXYTT*LP8340*IDT-2.5; Published: 4-Dec-2008; DatasheetVersion: May-2005; PackageVersion: revC, Apr-2003; PackageReference: TD03B; Publisher: Altium Limited; PackageDescription: TO252, Molded, Jedec, 6.8 x 6.10 x 2.30mm Body, 3 Lead, 2.28mm Pitch, Surface Mount; RoHS: Y; PinCount: 3; DigiKeyPartNumber: LP8340IDT-2.5-ND; Code_JEDEC: TO-252-AA; ComponentLink1Description: LP8340 Datasheet; ComponentLink1URL: http://www.national.com/ds/LP/LP8340.pdf; ComponentLink2Description: LP8340 Web Page; ComponentLink2URL: http://www.national.com/pf/LP/LP8340.html; ComponentLink3Description: TD03B Package Page; ComponentLink3URL: http://www.national.com/packaging/folders/td03b.html
footprint TD03B_N (D-PAK, 4-Leads, Body 6.1x6.6mm, Pitch 2.29mm, Lead Span 9.7mm, IPC Medium Density)
footprint TD03B_L (D-PAK, 4-Leads, Body 6.1x6.6mm, Pitch 2.29mm, Lead Span 9.7mm, IPC High Density)
footprint TD03B_M (D-PAK, 4-Leads, Body 6.1x6.6mm, Pitch 2.29mm, Lead Span 9.7mm, IPC Low Density)
pins: 1 OUT (power), 3 IN (power), 4 GND (power)

## LP8340IDT-3.3
designator U?
Low Dropout, Low IQ, 1.0A CMOS Linear Regulator; PartNumber: LP8340IDT-3.3; Manufacturer: National Semiconductor; CompType: LDO IC; PackageTopMarking: NSUZXYTT*LP8340*IDT-3.3; Published: 4-Dec-2008; DatasheetVersion: May-2005; PackageVersion: revC, Apr-2003; PackageReference: TD03B; Publisher: Altium Limited; PackageDescription: TO252, Molded, Jedec, 6.8 x 6.10 x 2.30mm Body, 3 Lead, 2.28mm Pitch, Surface Mount; RoHS: Y; PinCount: 3; DigiKeyPartNumber: LP8340IDT-3.3-ND; Code_JEDEC: TO-252-AA; ComponentLink1Description: LP8340 Datasheet; ComponentLink1URL: http://www.national.com/ds/LP/LP8340.pdf; ComponentLink2Description: LP8340 Web Page; ComponentLink2URL: http://www.national.com/pf/LP/LP8340.html; ComponentLink3Description: TD03B Package Page; ComponentLink3URL: http://www.national.com/packaging/folders/td03b.html
footprint TD03B_N (D-PAK, 4-Leads, Body 6.1x6.6mm, Pitch 2.29mm, Lead Span 9.7mm, IPC Medium Density)
footprint TD03B_L (D-PAK, 4-Leads, Body 6.1x6.6mm, Pitch 2.29mm, Lead Span 9.7mm, IPC High Density)
footprint TD03B_M (D-PAK, 4-Leads, Body 6.1x6.6mm, Pitch 2.29mm, Lead Span 9.7mm, IPC Low Density)
pins: 1 OUT (power), 3 IN (power), 4 GND (power)

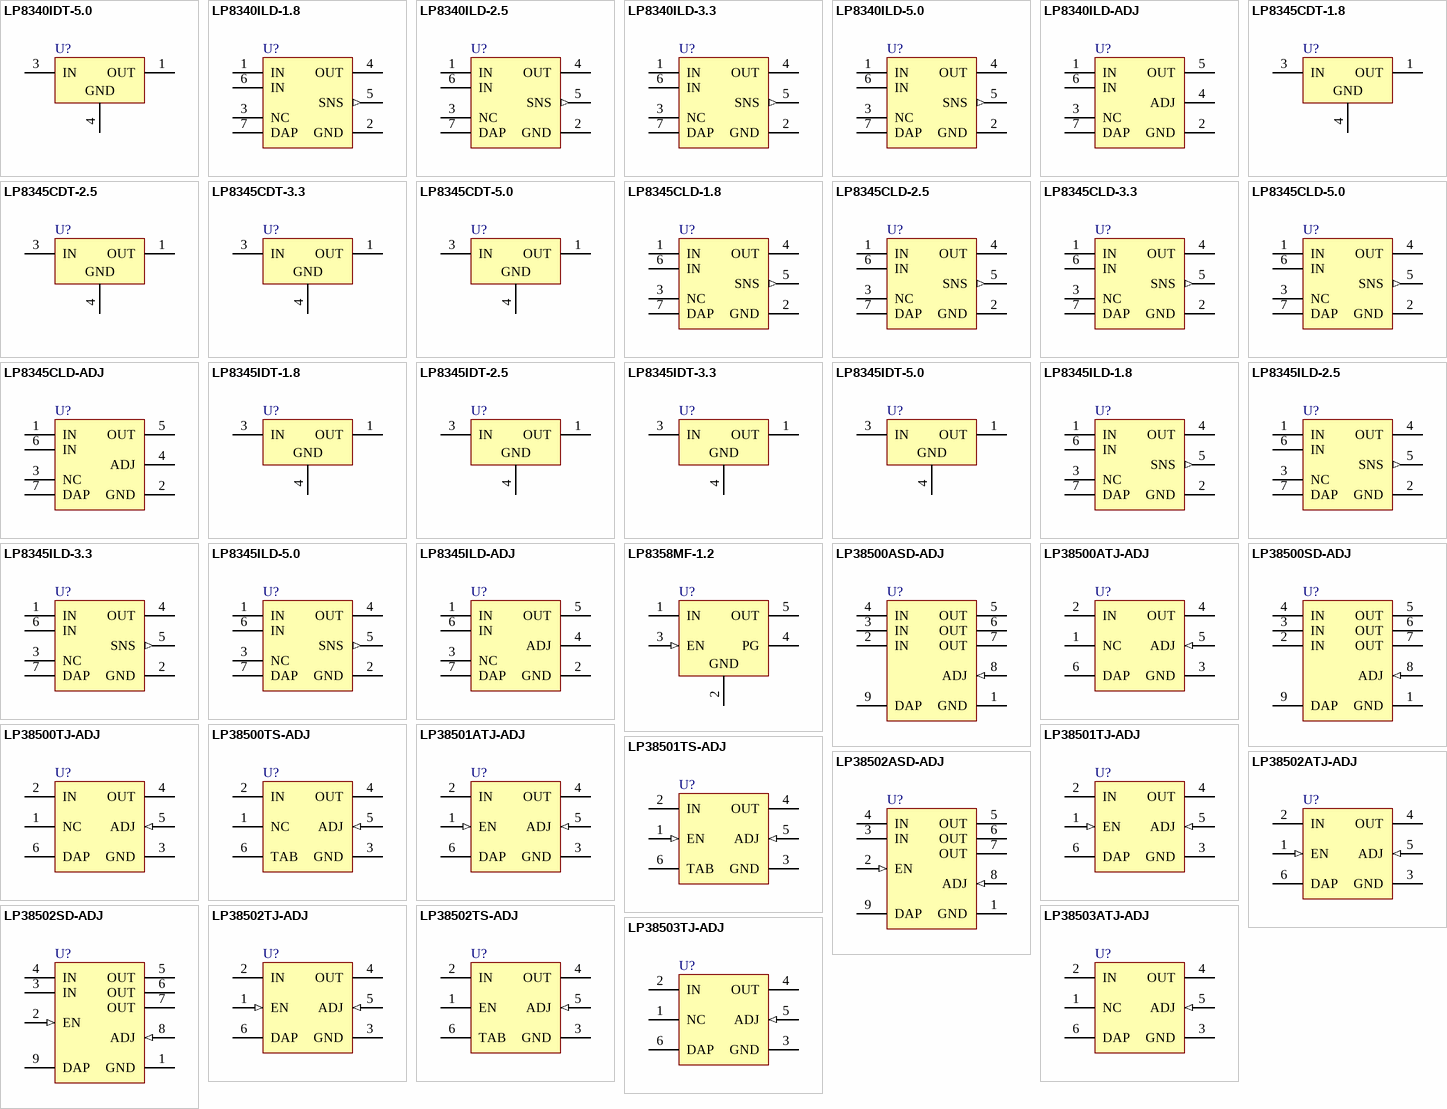
[diagram p27: symbols LP8340IDT-5.0 to LP38503TJ-ADJ]

## LP8340IDT-5.0
designator U?
Low Dropout, Low IQ, 1.0A CMOS Linear Regulator; PartNumber: LP8340IDT-5.0; Manufacturer: National Semiconductor; CompType: LDO IC; PackageTopMarking: NSUZXYTT*LP8340*IDT-5.0; Published: 4-Dec-2008; DatasheetVersion: May-2005; PackageVersion: revC, Apr-2003; PackageReference: TD03B; Publisher: Altium Limited; PackageDescription: TO252, Molded, Jedec, 6.8 x 6.10 x 2.30mm Body, 3 Lead, 2.28mm Pitch, Surface Mount; RoHS: Y; PinCount: 3; DigiKeyPartNumber: LP8340IDT-5.0-ND; Code_JEDEC: TO-252-AA; ComponentLink1Description: LP8340 Datasheet; ComponentLink1URL: http://www.national.com/ds/LP/LP8340.pdf; ComponentLink2Description: LP8340 Web Page; ComponentLink2URL: http://www.national.com/pf/LP/LP8340.html; ComponentLink3Description: TD03B Package Page; ComponentLink3URL: http://www.national.com/packaging/folders/td03b.html
footprint TD03B_N (D-PAK, 4-Leads, Body 6.1x6.6mm, Pitch 2.29mm, Lead Span 9.7mm, IPC Medium Density)
footprint TD03B_L (D-PAK, 4-Leads, Body 6.1x6.6mm, Pitch 2.29mm, Lead Span 9.7mm, IPC High Density)
footprint TD03B_M (D-PAK, 4-Leads, Body 6.1x6.6mm, Pitch 2.29mm, Lead Span 9.7mm, IPC Low Density)
pins: 1 OUT (power), 3 IN (power), 4 GND (power)

## LP8340ILD-1.8
designator U?
Low Dropout, Low IQ, 1.0A CMOS Linear Regulator; PartNumber: LP8340ILD-1.8; Manufacturer: National Semiconductor; CompType: LDO IC; PackageTopMarking: ZXYTT*L079B; Published: 4-Dec-2008; DatasheetVersion: May-2005; PackageVersion: revA, Jul-2001; PackageReference: LDE06A; Publisher: Altium Limited; PackageDescription: LLP, Plastic, Dual, 2.92 x 3.29 x 0.75mm Body, 6 Lead, 0.95mm Pitch, SOT23 Land; RoHS: O; PinCount: 6; DigiKeyPartNumber: LP8340ILD-1.8-ND; ComponentLink1Description: LP8340 Datasheet; ComponentLink1URL: http://www.national.com/ds/LP/LP8340.pdf; ComponentLink2Description: LP8340 Web Page; ComponentLink2URL: http://www.national.com/pf/LP/LP8340.html; ComponentLink3Description: LDE06A Package Page; ComponentLink3URL: http://www.national.com/packaging/folders/lde06a.html
footprint LDE06A (PSON, 6-Leads, Body 2.92x3.29 mm, Pitch 0.95mm, NSC Recommended)
pins: 1 IN (power), 2 GND (power), 3 NC, 4 OUT (power), 5 SNS (out), 6 IN (power), 7 DAP (power)

## LP8340ILD-2.5
designator U?
Low Dropout, Low IQ, 1.0A CMOS Linear Regulator; PartNumber: LP8340ILD-2.5; Manufacturer: National Semiconductor; CompType: LDO IC; PackageTopMarking: ZXYTT*L080B; Published: 4-Dec-2008; DatasheetVersion: May-2005; PackageVersion: revA, Jul-2001; PackageReference: LDE06A; Publisher: Altium Limited; PackageDescription: LLP, Plastic, Dual, 2.92 x 3.29 x 0.75mm Body, 6 Lead, 0.95mm Pitch, SOT23 Land; RoHS: Y; PinCount: 6; DigiKeyPartNumber: LP8340ILD-2.5-ND; ComponentLink1Description: LP8340 Datasheet; ComponentLink1URL: http://www.national.com/ds/LP/LP8340.pdf; ComponentLink2Description: LP8340 Web Page; ComponentLink2URL: http://www.national.com/pf/LP/LP8340.html; ComponentLink3Description: LDE06A Package Page; ComponentLink3URL: http://www.national.com/packaging/folders/lde06a.html
footprint LDE06A (PSON, 6-Leads, Body 2.92x3.29 mm, Pitch 0.95mm, NSC Recommended)
pins: 1 IN (power), 2 GND (power), 3 NC, 4 OUT (power), 5 SNS (out), 6 IN (power), 7 DAP (power)

## LP8340ILD-3.3
designator U?
Low Dropout, Low IQ, 1.0A CMOS Linear Regulator; PartNumber: LP8340ILD-3.3; Manufacturer: National Semiconductor; CompType: LDO IC; PackageTopMarking: ZXYTT*L081B; Published: 4-Dec-2008; DatasheetVersion: May-2005; PackageVersion: revA, Jul-2001; PackageReference: LDE06A; Publisher: Altium Limited; PackageDescription: LLP, Plastic, Dual, 2.92 x 3.29 x 0.75mm Body, 6 Lead, 0.95mm Pitch, SOT23 Land; RoHS: Y; PinCount: 6; DigiKeyPartNumber: LP8340ILD-3.3-ND; ComponentLink1Description: LP8340 Datasheet; ComponentLink1URL: http://www.national.com/ds/LP/LP8340.pdf; ComponentLink2Description: LP8340 Web Page; ComponentLink2URL: http://www.national.com/pf/LP/LP8340.html; ComponentLink3Description: LDE06A Package Page; ComponentLink3URL: http://www.national.com/packaging/folders/lde06a.html
footprint LDE06A (PSON, 6-Leads, Body 2.92x3.29 mm, Pitch 0.95mm, NSC Recommended)
pins: 1 IN (power), 2 GND (power), 3 NC, 4 OUT (power), 5 SNS (out), 6 IN (power), 7 DAP (power)

## LP8340ILD-5.0
designator U?
Low Dropout, Low IQ, 1.0A CMOS Linear Regulator; PartNumber: LP8340ILD-5.0; Manufacturer: National Semiconductor; CompType: LDO IC; PackageTopMarking: ZXYTT*L082B; Published: 4-Dec-2008; DatasheetVersion: May-2005; PackageVersion: revA, Jul-2001; PackageReference: LDE06A; Publisher: Altium Limited; PackageDescription: LLP, Plastic, Dual, 2.92 x 3.29 x 0.75mm Body, 6 Lead, 0.95mm Pitch, SOT23 Land; RoHS: Y; PinCount: 6; DigiKeyPartNumber: LP8340ILD-5.0-ND; ComponentLink1Description: LP8340 Datasheet; ComponentLink1URL: http://www.national.com/ds/LP/LP8340.pdf; ComponentLink2Description: LP8340 Web Page; ComponentLink2URL: http://www.national.com/pf/LP/LP8340.html; ComponentLink3Description: LDE06A Package Page; ComponentLink3URL: http://www.national.com/packaging/folders/lde06a.html
footprint LDE06A (PSON, 6-Leads, Body 2.92x3.29 mm, Pitch 0.95mm, NSC Recommended)
pins: 1 IN (power), 2 GND (power), 3 NC, 4 OUT (power), 5 SNS (out), 6 IN (power), 7 DAP (power)